# EAGLE library part MAX32664GTGA+ (library graftel-internal-ic)
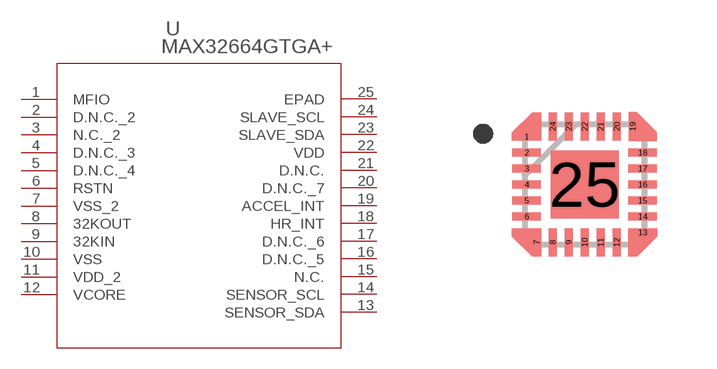
[diagram p98: symbol with the pads of 21-100264_90-100089_MXM; footprint 21-100264_90-100089_MXM]

Designator prefix U

## MAX32664GTGA+ (BUILT_BY: EMA_Rebekah; COPYRIGHT: Copyright (C) 2018 Accelerated Designs. All rights reserved; MANUFACTURER_PART_NUMBER: MAX32664GTGA+; REVISION: 2; SOURCELIBRARY: Maxim_2020-02-10; VENDOR: Maxim Integrated Products)  [21-100264_90-100089_MXM]
1  MFIO
2  D.N.C._2  nc
3  N.C._2  nc
4  D.N.C._3  nc
5  D.N.C._4  nc
6  RSTN  in
7  VSS_2  pwr
8  32KOUT  out
9  32KIN  in
10  VSS  pwr
11  VDD_2  pwr
12  VCORE  pwr
13  SENSOR_SDA  pas
14  SENSOR_SCL  pas
15  N.C.  nc
16  D.N.C._5  nc
17  D.N.C._6  nc
18  HR_INT  in
19  ACCEL_INT  in
20  D.N.C._7  nc
21  D.N.C.  nc
22  VDD  pwr
23  SLAVE_SDA  pas
24  SLAVE_SCL  pas
25  EPAD  pwr

## Footprint 21-100264_90-100089_MXM (pad centres in mm)
smd 0.711 x 0.203: 1 -1.45,1.2; 2 -1.45,0.8; 3 -1.45,0.4; 4 -1.45,0; 5 -1.45,-0.4; 6 -1.45,-0.8; 13 1.45,-1.2; 14 1.45,-0.8; 15 1.45,-0.4; 16 1.45,0; 17 1.45,0.4; 18 1.45,0.8
smd 0.203 x 0.711: 7 -1.2,-1.45; 8 -0.8,-1.45; 9 -0.4,-1.45; 10 0,-1.45; 11 0.4,-1.45; 12 0.8,-1.45; 19 1.2,1.45; 20 0.8,1.45; 21 0.4,1.45; 22 0,1.45; 23 -0.4,1.45; 24 -0.8,1.45
smd 1.702 x 1.702: 25 0,0